# EAGLE library part KXTC9-2050 (library CalvEngIO-Sensors)
Pin Name Description 1 Vdd The power supply input. Decouple this pin to ground with a 0.1uF ceramic capacitor (C1). 2 Res Reserved – Connect to Vdd or Ground 3 ST Self Test: Low - Normal operation; High - Device is in self-test mode. Connect to Ground if not used. 4 Enable Enable (1 = Normal Mode, 0 = Power Down Mode) 5 NC Not Connected Internally – may be connected to Vdd or Ground 6 X Output Analog output of the x-channel. Optionally, a capacitor (C2) placed between this pin and ground will form a low pass filter. 7 Y Output Analog output of the y-channel. Optionally, a capacitor (C3) placed between this pin and ground will form a low pass filter. 8 Z Output Analog output of the z-channel. Optionally, a capacitor (C4) placed between this pin and ground will form a low pass filter. 9 GND Ground 10 NC Not Connected Internally – may be connected to Vdd or Ground Datasheet: http://kionixfs.kionix.com/en/datasheet/KXTC9-2050%20Specifications%20Rev%202.pdf
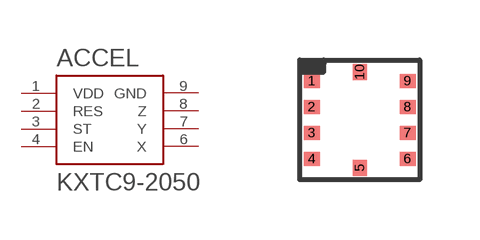
[diagram p10: symbol with the pads of LGA(3MMX3MM); footprint LGA(3MMX3MM)]

Designator prefix ACCEL

## KXTC9-2050  [LGA(3MMX3MM)]
1  VDD
2  RES
3  ST
4  EN
6  X
7  Y
8  Z
9  GND

## Footprint LGA(3MMX3MM) (pad centres in mm)
smd 0.4 x 0.35: 1 -1.2,0.975; 2 -1.2,0.325; 3 -1.2,-0.325; 4 -1.2,-0.975; 6 1.2,-0.975; 7 1.2,-0.325; 8 1.2,0.325; 9 1.2,0.975
smd 0.35 x 0.4: 5 0,-1.2; 10 0,1.2